# Altium integrated library ISSI SRAM Synchronous SRAM No-Wait(ZBT).IntLib: 1246 symbols (part 109 of 152)
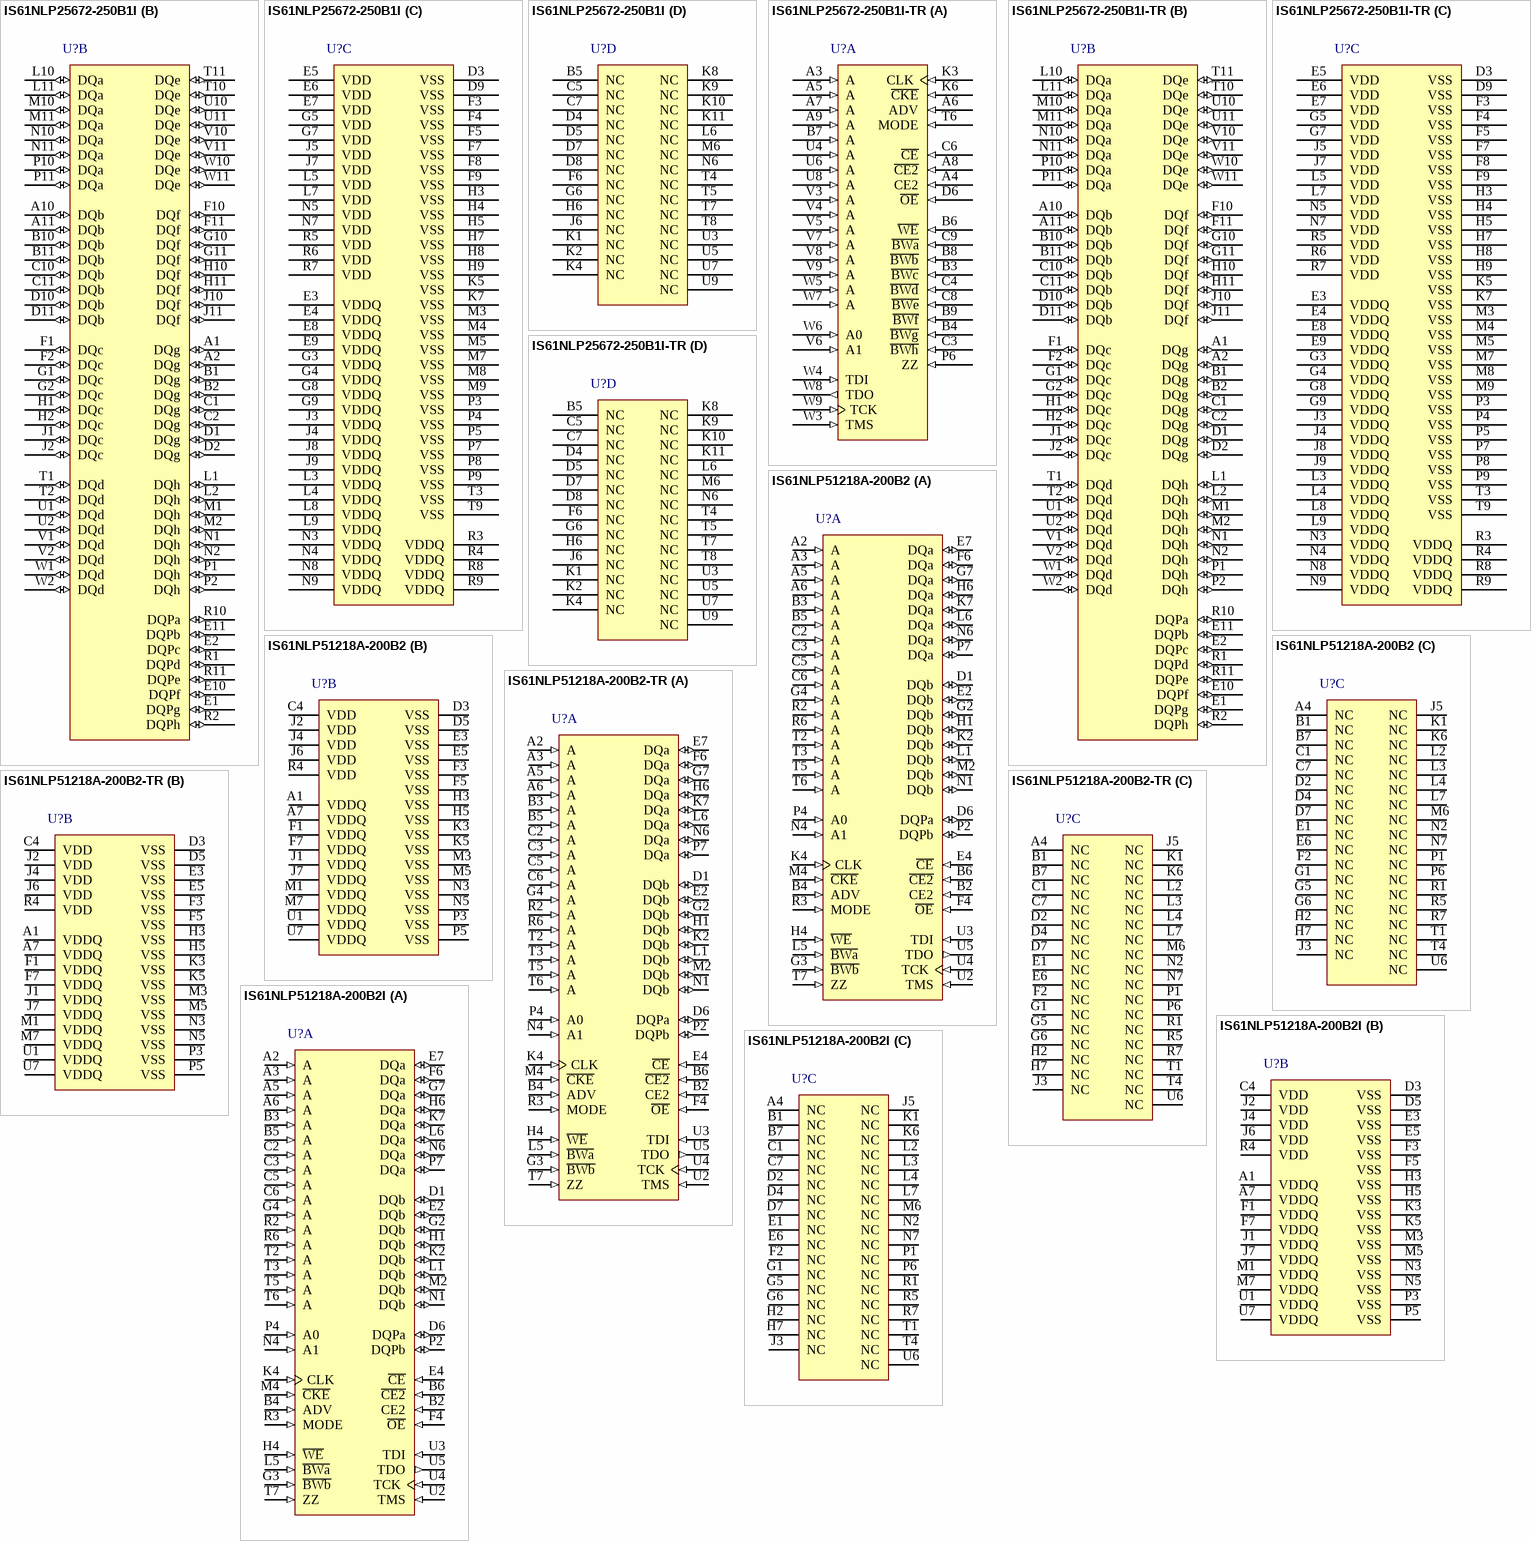
[diagram p393: symbols IS61NLP25672-250B1I to IS61NLP51218A-200B2I]

## IS61NLP51218A-200B2
designator U?
9 M Pipeline 'No Wait' State Bus SRAM, 512 K x 18, 0 to 70 degC, 119-Pin BGA (PBGA-119); Manufacturer: Integrated Silicon Solution Inc (ISSI); PartNumber: IS61NLP51218A-200B2; Density: 9M; Packing: Tube / Tray; Vcc: 3.3 V; VccQ: 2.5 / 3.3 V; DatasheetVersion: Rev. I; PackageVersion: Rev. D, 10/2008; PackageReference: PBGA-119; PackageDescription: 119-Pin 14 x 22 mm PBGA, Pitch 1.27 mm; Organization: 512Kx18; Mounting Technology: Surface Mount; Code_JEDEC: MS-028; ComponentLink1Description: Manufacturer URL; ComponentLink1URL: http://www.issi.com/US/index.shtml; ComponentLink2Description: Datasheet; ComponentLink2URL: http://www.issi.com/WW/pdf/61NLP_NVP25636A_51218A.pdf; ComponentLink3Description: Package Specification; ComponentLink3URL: http://www.issi.com/WW/pdf/61NLP_NVP25636A_51218A.pdf
footprint ISSI-PBGA-119-14000X22000DE (BGA, 119-Balls, Body 22x14mm, Pitch 1.27mm)
part A pins: A2 A (in) "Address Input", A3 A (in) "Address Input", A5 A (in) "Address Input", A6 A (in) "Address Input", B2 CE2 (in) "Synchronous Chip Select", B3 A (in) "Address Input", B4 ADV (in) "Synchronous Burst Address Advance/Load", B5 A (in) "Address Input", B6 ~{CE2} (in) "Synchronous Chip Select", C2 A (in) "Address Input", C3 A (in) "Address Input", C5 A (in) "Address Input", C6 A (in) "Address Input", D1 DQb (io) "Data Inputs/Outputs", D6 DQPa (io) "Parity Data I/O", E2 DQb (io) "Data Inputs/Outputs", E4 ~{CE} (in) "Synchronous Chip Select", E7 DQa (io) "Data Inputs/Outputs", F4 ~{OE} (in) "Output Enable", F6 DQa (io) "Data Inputs/Outputs", G2 DQb (io) "Data Inputs/Outputs", G3 ~{BWb} (in) "Synchronous Byte Write Inputs", G4 A (in) "Address Input", G7 DQa (io) "Data Inputs/Outputs", H1 DQb (io) "Data Inputs/Outputs", H4 ~{WE} (in) "Synchronous Read/Write Control Input", H6 DQa (io) "Data Inputs/Outputs", K2 DQb (io) "Data Inputs/Outputs", K4 CLK (in) "Synchronous Clock", K7 DQa (io) "Data Inputs/Outputs", L1 DQb (io) "Data Inputs/Outputs", L5 ~{BWa} (in) "Synchronous Byte Write Inputs", L6 DQa (io) "Data Inputs/Outputs", M2 DQb (io) "Data Inputs/Outputs", M4 ~{CKE} (in) "Clock Enable", N1 DQb (io) "Data Inputs/Outputs", N4 A1 (in) "Synchronous Burst Address Inputs", N6 DQa (io) "Data Inputs/Outputs", P2 DQPb (io) "Parity Data I/O", P4 A0 (in) "Synchronous Burst Address Inputs", P7 DQa (io) "Data Inputs/Outputs", R2 A (in) "Address Input", R3 MODE (in) "Burst Sequence Selection", R6 A (in) "Address Input", T2 A (in) "Address Input", T3 A (in) "Address Input", T5 A (in) "Address Input", T6 A (in) "Address Input", T7 ZZ (in) "Power Sleep Mode", U2 TMS (in) "JTAG Pins", U3 TDI (in) "JTAG Pins", U4 TCK (in) "JTAG Pins", U5 TDO (out) "JTAG Pins"
part B pins: A1 VDDQ (power) "Output Power Supply", A7 VDDQ (power) "Output Power Supply", C4 VDD (power) "Power Supply", D3 VSS (power) "Ground", D5 VSS (power) "Ground", E3 VSS (power) "Ground", E5 VSS (power) "Ground", F1 VDDQ (power) "Output Power Supply", F3 VSS (power) "Ground", F5 VSS (power) "Ground", F7 VDDQ (power) "Output Power Supply", H3 VSS (power) "Ground", H5 VSS (power) "Ground", J1 VDDQ (power) "Output Power Supply", J2 VDD (power) "Power Supply", J4 VDD (power) "Power Supply", J6 VDD (power) "Power Supply", J7 VDDQ (power) "Output Power Supply", K3 VSS (power) "Ground", K5 VSS (power) "Ground", M1 VDDQ (power) "Output Power Supply", M3 VSS (power) "Ground", M5 VSS (power) "Ground", M7 VDDQ (power) "Output Power Supply", N3 VSS (power) "Ground", N5 VSS (power) "Ground", P3 VSS (power) "Ground", P5 VSS (power) "Ground", R4 VDD (power) "Power Supply", U1 VDDQ (power) "Output Power Supply", U7 VDDQ (power) "Output Power Supply"
part C pins: A4 NC "No Connect", B1 NC "No Connect", B7 NC "No Connect", C1 NC "No Connect", C7 NC "No Connect", D2 NC "No Connect", D4 NC "No Connect", D7 NC "No Connect", E1 NC "No Connect", E6 NC "No Connect", F2 NC "No Connect", G1 NC "No Connect", G5 NC "No Connect", G6 NC "No Connect", H2 NC "No Connect", H7 NC "No Connect", J3 NC "No Connect", J5 NC "No Connect", K1 NC "No Connect", K6 NC "No Connect", L2 NC "No Connect", L3 NC "No Connect", L4 NC "No Connect", L7 NC "No Connect", M6 NC "No Connect", N2 NC "No Connect", N7 NC "No Connect", P1 NC "No Connect", P6 NC "No Connect", R1 NC "No Connect", R5 NC "No Connect", R7 NC "No Connect", T1 NC "No Connect", T4 NC "No Connect", U6 NC "No Connect"